# EAGLE library part PCM3060 (library Mine)
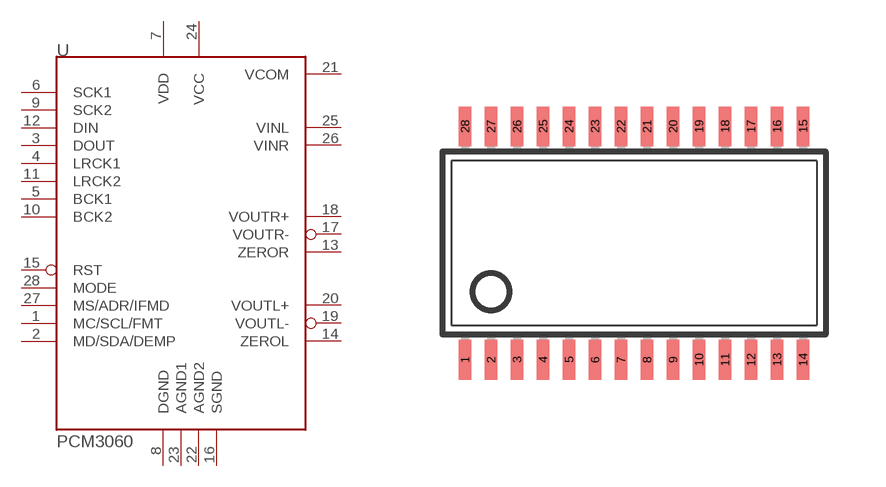
[diagram p44: symbol with the pads of TSSOP28; footprint TSSOP28]

Designator prefix -

## PCM3060  [TSSOP28]
1  MC/SCL/FMT  in
2  MD/SDA/DEMP  in
3  DOUT  out
4  LRCK1
5  BCK1
6  SCK1  in
7  VDD  pwr
8  DGND  pwr
9  SCK2  in
10  BCK2
11  LRCK2
12  DIN  in
13  ZEROR  out
14  ZEROL  out
15  RST  in
16  SGND  pwr
17  VOUTR-  out
18  VOUTR+  out
19  VOUTL-  out
20  VOUTL+  out
21  VCOM  in
22  AGND2  pwr
23  AGND1  pwr
24  VCC  pwr
25  VINL  in
26  VINR  in
27  MS/ADR/IFMD  in
28  MODE  in

## Footprint TSSOP28 (pad centres in mm)
Thin Shrink Small Outline Plastic 28 MAX3223-MAX3243.pdf
smd 0.305 x 0.991: 1 -4.225,-2.918; 2 -3.575,-2.918; 3 -2.925,-2.918; 4 -2.275,-2.918; 5 -1.625,-2.918; 6 -0.975,-2.918; 7 -0.325,-2.918; 8 0.325,-2.918; 9 0.975,-2.918; 10 1.625,-2.918; 11 2.275,-2.918; 12 2.925,-2.918; 13 3.575,-2.918; 14 4.225,-2.918; 15 4.225,2.918; 16 3.575,2.918; 17 2.925,2.918; 18 2.275,2.918; 19 1.625,2.918; 20 0.975,2.918; 21 0.325,2.918; 22 -0.325,2.918; 23 -0.975,2.918; 24 -1.625,2.918; 25 -2.275,2.918; 26 -2.925,2.918; 27 -3.575,2.918; 28 -4.225,2.918